# Altium footprint library MyLibrary.PcbLib: 16 footprints
Each footprint in its own frame and in the unit in brackets; x right, y up, seen from the top. Pads: shape width x height; smd on the part's side, far side on the other; paste and mask are expansions set on the pad; w line width, h text height; cw(c..) or ccw(c..) is an arc to the next point about the centre after c.
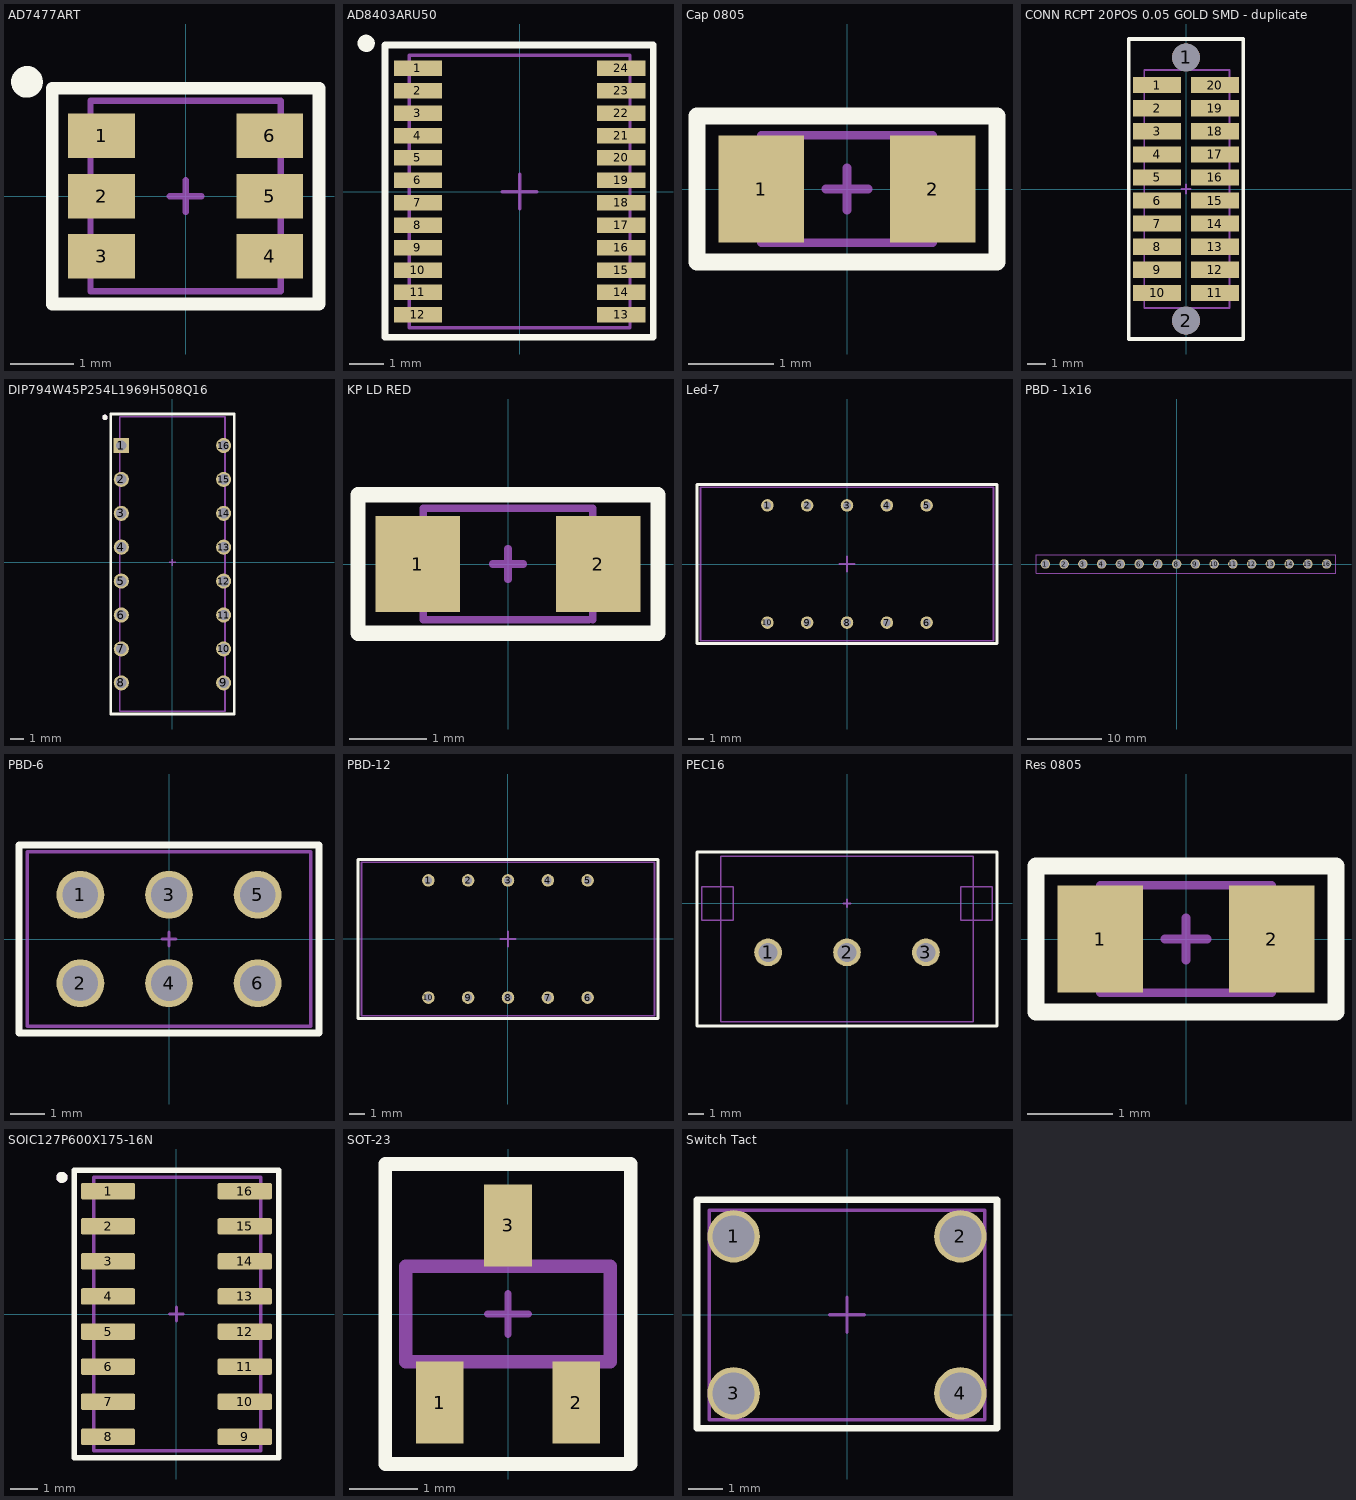
[diagram p0: the footprints below, top view; thin cyan lines are the x and y axes]

## AD7477ART [mm] "SOT23, 6-Leads, Body 2,90x2,80mm, Pitch 0,95mm, IPC Medium Density"
height 1.45
pads (6):
  rect 1.05x0.7 smd: 1(-1.325,0.95) 2(-1.325,0) 3(-1.325,-0.95) 4(1.325,-0.95) 5(1.325,0) 6(1.325,0.95)
Top Overlay:
  circle w0.25: c-2.5,1.8 r0.125
  lines w0.2: -2.1,-1.7 -2.1,1.7 2.1,1.7 2.1,-1.7 -2.1,-1.7
Mechanical 3:
  lines w0.1: -0.25,0 0.25,0 ; 0,-0.25 0,0.25 ; -2.1,-1.7 2.1,-1.7 2.1,1.7 -2.1,1.7 -2.1,-1.7
3D view:
  lines w0.1: -1.5,-1.5 1.5,-1.5 1.5,1.5 -1.5,1.5 -1.5,-1.5
3D body "User Library-SOT23-6.step": height 1.3, standoff 0, extent -1.5,-1.5 1.5,1.5

## AD8403ARU50 [mm] "TSOP, 24-Leads, Body 7,90x4,50mm, Pitch 0,65mm, IPC Medium Density"
height 1.2
pads (24):
  rect 1.4x0.45 smd: 1(-2.95,3.575) 2(-2.95,2.925) 3(-2.95,2.275) 4(-2.95,1.625) 5(-2.95,0.975) 6(-2.95,0.325) 7(-2.95,-0.325) 8(-2.95,-0.975) 9(-2.95,-1.625) 10(-2.95,-2.275) 11(-2.95,-2.925) 12(-2.95,-3.575) 13(2.95,-3.575) 14(2.95,-2.925) 15(2.95,-2.275) 16(2.95,-1.625) 17(2.95,-0.975) 18(2.95,-0.325) 19(2.95,0.325) 20(2.95,0.975) 21(2.95,1.625) 22(2.95,2.275) 23(2.95,2.925) 24(2.95,3.575)
Top Overlay:
  circle w0.25: c-4.45,4.3 r0.125
  lines w0.2: -3.9,-4.225 -3.9,4.25 3.875,4.25 3.875,-4.225 -3.9,-4.225
Mechanical 3:
  lines w0.05: -3.9,-4.25 -3.9,4.25 3.9,4.25 3.9,-4.25 3.8,-4.25 1.938,-4.25 -1.937,-4.25 -3.9,-4.25
  lines w0.1: -0.5,0 0.5,0 ; 0,-0.5 0,0.5
3D view:
  lines w0.1: -3.2,-3.95 -3.2,3.95 3.2,3.95 3.2,-3.95 -3.2,-3.95
3D body "User Library-AD8400 TSSOP.step": height 1.17, standoff -0.01, extent -3.203,-3.99 3.204,3.9

## Cap 0805 [mm]
pads (2):
  rect 1x1.25 smd: 1(-1,0) 2(1,0)
Top Overlay:
  lines w0.2: -1.75,-0.85 -1.75,0.85 1.75,0.85 1.75,-0.85 -1.75,-0.85
Top Assy:
  lines w0.1: -1,-0.625 -1,0.625 1,0.625 1,-0.625 -1,-0.625
Border:
  lines w0.1: -0.25,0 0.25,0 ; 0,-0.25 0,0.25 ; -1.75,-0.85 -1.75,0.85 1.75,0.85 1.75,-0.85 -1.75,-0.85
3D body "User Library-CAPC2013X10.step": height 1, standoff 0, extent -1,-0.625 1,0.625

## CONN RCPT 20POS 0.05 GOLD SMD - duplicate [mm]
pads (22):
  rect 2.64x0.89 smd: 1(-1.585,5.715) 2(-1.585,4.445) 3(-1.585,3.175) 4(-1.585,1.905) 5(-1.585,0.635) 6(-1.585,-0.635) 7(-1.585,-1.905) 8(-1.585,-3.175) 9(-1.585,-4.445) 10(-1.585,-5.715) 11(1.585,-5.715) 12(1.585,-4.445) 13(1.585,-3.175) 14(1.585,-1.905) 15(1.585,-0.635) 16(1.585,0.635) 17(1.585,1.905) 18(1.585,3.175) 19(1.585,4.445) 20(1.585,5.715)
  round 1.524 hole 1.524: 1(0,7.235) 2(0,-7.235)
Top Overlay:
  lines w0.2: -3.15,-8.25 -3.15,6.15 -3.15,8.25 3.15,8.25 3.15,-8.25 -3.15,-8.25
Mechanical 3:
  lines w0.1: -0.25,0 0,0 ; 0,-0.25 0,0 ; 0,0.25 0,0 ; 0.25,0 0,0 ; -3.15,-8.25 -3.15,8.25 3.15,8.25 3.15,-8.25 -3.15,-8.25
3D view:
  lines w0.1: -2.299,-6.553 2.4,-6.553 2.4,6.553 -2.299,6.553 -2.299,-6.553
3D body "87022-610.stp": height 4.7, standoff -0.05, extent -2.299,-6.553 2.4,6.553

## DIP794W45P254L1969H508Q16 [mm]
pads (16):
  rect 1.13x1.13 hole 0.78: 1(-3.825,8.765)
  round 1.13 hole 0.78: 2(-3.825,6.225) 3(-3.825,3.685) 4(-3.825,1.145) 5(-3.825,-1.395) 6(-3.825,-3.935) 7(-3.825,-6.475) 8(-3.825,-9.015) 9(3.845,-9.015) 10(3.845,-6.475) 11(3.845,-3.935) 12(3.845,-1.395) 13(3.845,1.145) 14(3.845,3.685) 15(3.845,6.225) 16(3.845,8.765)
Top Overlay:
  circle w0.2: c-5.05,10.875 r0.1
  lines w0.2: -4.625,-11.35 -4.625,11.125 4.65,11.125 4.65,-11.35 -4.625,-11.35
Mechanical 3:
  lines w0.05: -4.625,-11.35 4.65,-11.35 4.65,11.125 -4.625,11.125 -4.625,-11.35
  lines w0.1: -0.25,0 0.25,0 ; 0,-0.25 0,0 0,0.25
3D view:
  circle w0.2: c-5.05,10.875 r0.1
  lines w0.127: -3.935,-11.15 3.939,-11.15 3.939,10.924 -3.935,10.924 -3.935,-11.15
3D body "User Library-DIP16-22mm.STEP": height 5.15, standoff -2.49, extent -3.933,-11.125 3.937,10.875

## KP LD RED [mm]
pads (2):
  rect 1.1x1.25 smd: 1(-1.175,0) 2(1.175,0)
Top Overlay:
  lines w0.2: -1.95,-0.9 1.95,-0.9 1.95,0.9 -1.95,0.9 -1.95,-0.9
Top Assy:
  lines w0.1: 1.05,-0.725 -1.1,-0.725 -1.1,0.725 1.1,0.725 1.1,-0.725
Border:
  lines w0.1: -0.2,0 0.2,0 ; 0,-0.2 0,0.2 ; -1.95,-0.9 -1.95,0.9 1.95,0.9 1.95,-0.9 -1.95,-0.9
3D body "User Library-0805_D.STEP": height 0.95, standoff 0, extent -1.1,-0.725 1.1,0.725

## Led-7 [mm]
pads (10):
  round 0.8 hole 0.5: 1(-5.1,3.75) 2(-2.55,3.75) 3(0,3.75) 4(2.55,3.75) 5(5.1,3.75) 6(5.1,-3.75) 7(2.55,-3.75) 8(0,-3.75) 9(-2.55,-3.75) 10(-5.1,-3.75)
Top Overlay:
  lines w0.2: -9.6,-5.1 -9.6,5.1 -9.5,5.1 9.6,5.1 9.6,-5.1 -9.5,-5.1 -9.6,-5.1
Top Assy:
  lines w0.1: -9.375,-4.9 -9.375,4.9 0,4.9 9.375,4.9 9.375,0 9.375,-4.9 -9.375,-4.9
Border:
  lines w0.1: -0.5,0 0.5,0 ; 0,-0.5 0,0.5 ; -9.6,-5.1 -9.6,5.1 9.6,5.1 9.6,-5.1 -9.6,-5.1
3D body: height 7.26, standoff 2.16, extent -9.375,-4.875 9.375,4.9

## PBD - 1x16 [mm]
pads (16):
  round 1.27 hole 1.02: 1(-17.78,0) 2(-15.24,0) 3(-12.7,0) 4(-10.16,0) 5(-7.62,0) 6(-5.08,0) 7(-2.54,0) 8(0,0) 9(2.54,0) 10(5.08,0) 11(7.62,0) 12(10.16,0) 13(12.7,0) 14(15.24,0) 15(17.78,0) 16(20.32,0)
Top Assy:
  lines w0.1: -19.05,-1.25 21.59,-1.25 21.59,1.25 -1.27,1.25 -19.05,1.25 -19.05,-1.25
3D body "User Library-pbs-16.STEP": height 8.77, standoff -2.23, extent -19.02,-1.3 21.62,1.24

## PBD-6 [mm]
pads (6):
  round 1.37 hole 1.02: 1(-2.54,1.27) 2(-2.54,-1.27) 3(0,1.27) 4(0,-1.27) 5(2.54,1.27) 6(2.54,-1.27)
Top Overlay:
  lines w0.2: -4.3,-2.7 4.3,-2.7 4.3,2.7 -4.1,2.7 -4.3,2.7 -4.3,-2.7
Top Assy:
  lines w0.1: -4.06,-2.5 4.06,-2.5 4.06,2.5 -4.06,2.5 -4.06,-2.5
Border:
  lines w0.1: -0.2,0 0.2,0 ; 0,-0.2 0,0.2 ; -4.3,-2.7 4.3,-2.7 4.3,2.7 -4.3,2.7 -4.3,-2.7
3D body "RHDRV6W45P254_3X2_812X500H500.STEP": height 5, standoff -2, extent -4.06,-2.5 4.06,2.5

## PBD-12 [mm]
pads (10):
  round 0.8 hole 0.5: 1(-5.1,3.75) 2(-2.55,3.75) 3(0,3.75) 4(2.55,3.75) 5(5.1,3.75) 6(5.1,-3.75) 7(2.55,-3.75) 8(0,-3.75) 9(-2.55,-3.75) 10(-5.1,-3.75)
Top Overlay:
  lines w0.2: -9.6,-5.1 -9.5,-5.1 9.6,-5.1 9.6,5.1 -9.5,5.1 -9.6,5.1 -9.6,-5.1
Top Assy:
  lines w0.1: -9.375,-4.9 9.375,-4.9 9.375,0 9.375,4.9 0,4.9 -9.375,4.9 -9.375,-4.9
Border:
  lines w0.1: -0.5,0 0.5,0 ; 0,-0.5 0,0.5 ; -9.6,-5.1 9.6,-5.1 9.6,5.1 -9.6,5.1 -9.6,-5.1
3D body: height 7.26, standoff 2.16, extent -9.375,-4.875 9.375,4.9

## PEC16 [mm] "Encoder"
pads (3):
  round 1.75 hole 1.2: 1(-5,-3.1) 2(0,-3.1) 3(5,-3.1)
Top Overlay:
  lines w0.2: -9.5,-0.25 -9.5,3.25 9.5,3.25 9.5,-7.75 8.25,-7.75 -9.5,-7.75 -9.5,0
Top Assy:
  lines w0.1: -8,-7.5 0,-7.5 8,-7.5 8,-6 8,3 -8,3 -8,-7.5
Inside:
  lines w0.1: -9.2,-1.05 -9.2,1.05 -7.2,1.05 -7.2,-1.05 -9.2,-1.05 ; 7.2,-1.05 9.2,-1.05 9.2,1.05 7.2,1.05 7.2,-1.05
Border:
  lines w0.1: -0.25,0 0.25,0 ; 0,-0.25 0,0.25 ; -9.5,-7.75 -9.5,3.25 9.5,3.25 9.5,-7.75 -9.5,-7.75
3D body: height 7, standoff 0.5, extent -8,-7.5 8,3

## Res 0805 [mm]
pads (2):
  rect 1x1.25 smd: 1(-1,0) 2(1,0)
Top Overlay:
  lines w0.2: -1.75,-0.85 -1.75,0.85 1.75,0.85 1.75,-0.85 -1.75,-0.85
Top Assy:
  lines w0.1: -1,-0.625 1,-0.625 1,0.625 -1,0.625 -1,-0.625
Border:
  lines w0.1: -0.25,0 0.25,0 ; 0,-0.25 0,0.25 ; -1.75,-0.85 1.75,-0.85 1.75,0.85 -1.75,0.85 -1.75,-0.85
3D body "User Library-0805 SMD Resistor.step": height 0.78, standoff 0, extent -1,-0.625 1,0.625

## SOIC127P600X175-16N [mm]
pads (16):
  rrect25% 1.97x0.6 smd: 1(-2.475,4.445) 2(-2.475,3.175) 3(-2.475,1.905) 4(-2.475,0.635) 5(-2.475,-0.635) 6(-2.475,-1.905) 7(-2.475,-3.175) 8(-2.475,-4.445) 9(2.475,-4.445) 10(2.475,-3.175) 11(2.475,-1.905) 12(2.475,-0.635) 13(2.475,0.635) 14(2.475,1.905) 15(2.475,3.175) 16(2.475,4.445)
Top Overlay:
  circle w0.2: c-4.145,4.945 r0.1
  lines w0.2: -3.7,-5.2 -3.7,5.2 3.7,5.2 3.7,-5.2 -3.7,-5.2
Mechanical 3:
  lines w0.05: -3.71,-5.2 3.71,-5.2 3.71,5.2 -3.71,5.2 -3.71,-5.2
  lines w0.1: -0.25,0 0.25,0 ; 0,-0.25 0,0.25
3D view:
  circle w0.2: c-4.145,4.945 r0.1
  lines w0.127: -3,-4.953 3.048,-4.953 3.048,4.953 -3,4.953 -3,-4.953
3D body "User Library-SOIC-16.step": height 1.4, standoff 0, extent -3,-4.95 3,4.95

## SOT-23 [mm]
pads (3):
  rect 0.7x1.2 smd: 1(-1,-1.3) 2(1,-1.3) 3(0,1.3)
Top Overlay:
  lines w0.2: -1.8,-2.2 1.8,-2.2 1.8,2.2 -0.3,2.2 -1.8,2.2 -1.8,-2.2
Top Assy:
  lines w0.2: -1.5,-0.7 1.5,-0.7 1.5,0.7 -1.5,0.7 -1.5,-0.7
Border:
  lines w0.1: -0.3,0 0.3,0 ; 0,-0.3 0,0.3 ; -1.8,-2.2 1.8,-2.2 1.8,2.2 -1.8,2.2 -1.8,-2.2
3D body: height 1, standoff 0, extent -1.5,-0.7 1.5,0.7

## STM32F205RET6 [mm]

## Switch Tact [mm]
pads (4):
  round 1.5 hole 1.2: 1(-3.25,2.25) 2(3.25,2.25) 3(-3.25,-2.25) 4(3.25,-2.25)
Top Overlay:
  lines w0.2: -4.3,-3.25 -4,-3.25 4.3,-3.25 4.3,3.3 -4.3,3.3 -4.3,-3.25
Top Assy:
  lines w0.1: -3.95,-3 3.95,-3 3.95,3 -3.95,3 -3.95,-3
Border:
  lines w0.1: -0.5,0 0.5,0 ; 0,-0.5 0,0 0,0.5 ; -4.3,-3.25 4.3,-3.25 4.3,3.3 -4.3,3.3 -4.3,-3.25
3D body "User Library-KLS7-TS6601-7.STEP": height 7.64, standoff -2.86, extent -3.95,-3 3.95,3